# EAGLE library part BATTERY-HOLDER-4S-18650 (library diy-edondroid)
design by edondroid
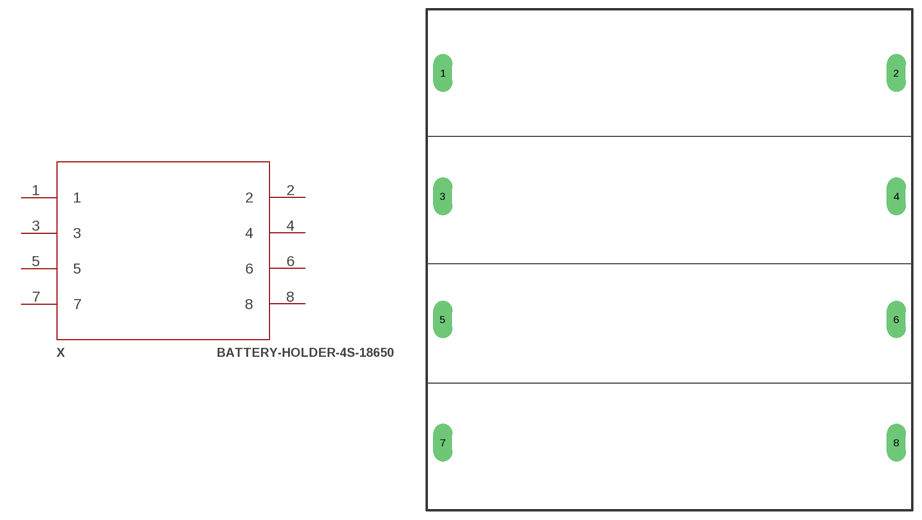
[diagram p1: symbol with the pads of BATTERY-HOLDER-4S-18650; footprint BATTERY-HOLDER-4S-18650]

Designator prefix X

## BATTERY-HOLDER-4S-18650  [BATTERY-HOLDER-4S-18650]
1  1
2  2
3  3
4  4
5  5
6  6
7  7
8  8

## Footprint BATTERY-HOLDER-4S-18650 (pad centres in mm)
drill 2 long: 1 -35.56,30.48; 2 36.83,30.48; 3 -35.56,10.795; 4 36.83,10.795; 5 -35.56,-8.89; 6 36.83,-8.89; 7 -35.56,-28.575; 8 36.83,-28.575